# EAGLE library part PCA9535 (library nxp)
I/O EXPANDER 16-bit I2C-bus and SMBus, low power I/O port with interrupt
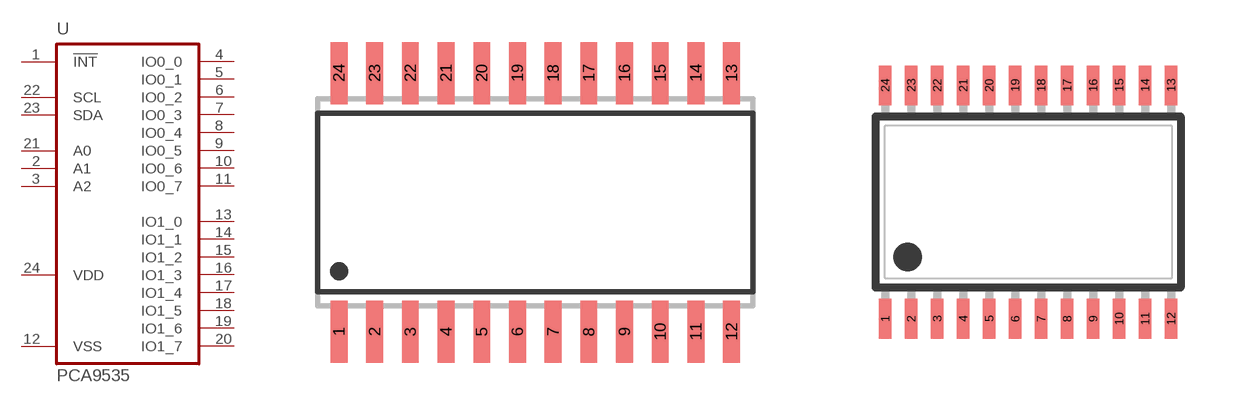
[diagram p9: symbol with the pads of SO24W; footprints SO24W, TSSOP24]

Designator prefix U

## PCA9535D  [SO24W]
1  !INT  out
2  A1  in
3  A2  in
4  IO0_0
5  IO0_1
6  IO0_2
7  IO0_3
8  IO0_4
9  IO0_5
10  IO0_6
11  IO0_7
12  VSS  pwr
13  IO1_0
14  IO1_1
15  IO1_2
16  IO1_3
17  IO1_4
18  IO1_5
19  IO1_6
20  IO1_7
21  A0  in
22  SCL  in
23  SDA
24  VDD  pwr

## PCA9535PW  [TSSOP24]
Pads as for SO24W

## PCA9535BS  [HVQFN24]
1  IO0_0
2  IO0_1
3  IO0_2
4  IO0_3
5  IO0_4
6  IO0_5
7  IO0_6
8  IO0_7
9  VSS  pwr
10  IO1_0
11  IO1_1
12  IO1_2
13  IO1_3
14  IO1_4
15  IO1_5
16  IO1_6
17  IO1_7
18  A0  in
19  SCL  in
20  SDA
21  VDD  pwr
22  !INT  out
23  A1  in
24  A2  in

## Footprint SO24W (pad centres in mm)
SMALL OUTLINE INTEGRATED CIRCUIT wide body 7.5 mm/JEDEC MO-119AA
smd 0.6 x 2.2: 1 -6.985,-4.6; 2 -5.715,-4.6; 3 -4.445,-4.6; 4 -3.175,-4.6; 5 -1.905,-4.6; 6 -0.635,-4.6; 7 0.635,-4.6; 8 1.905,-4.6; 9 3.175,-4.6; 10 4.445,-4.6; 11 5.715,-4.6; 12 6.985,-4.6; 13 6.985,4.6; 14 5.715,4.6; 15 4.445,4.6; 16 3.175,4.6; 17 1.905,4.6; 18 0.635,4.6; 19 -0.635,4.6; 20 -1.905,4.6; 21 -3.175,4.6; 22 -4.445,4.6; 23 -5.715,4.6; 24 -6.985,4.6

## Footprint TSSOP24 (pad centres in mm)
Thin Shrink Small Outline Plastic 24
smd 0.305 x 0.991: 1 -3.575,-2.918; 2 -2.925,-2.918; 3 -2.275,-2.918; 4 -1.625,-2.918; 5 -0.975,-2.918; 6 -0.325,-2.918; 7 0.325,-2.918; 8 0.975,-2.918; 9 1.625,-2.918; 10 2.275,-2.918; 11 2.925,-2.918; 12 3.575,-2.918; 13 3.575,2.918; 14 2.925,2.918; 15 2.275,2.918; 16 1.625,2.918; 17 0.975,2.918; 18 0.325,2.918; 19 -0.325,2.918; 20 -0.975,2.918; 21 -1.625,2.918; 22 -2.275,2.918; 23 -2.925,2.918; 24 -3.575,2.918

## Footprint HVQFN24 (pad centres in mm)
HVQFN24 body 4x4 mm, JDEC MO-220, outline SOT616-1
smd 0.8 x 0.3: 1 -2,1.25; 2 -2,0.75; 3 -2,0.25; 4 -2,-0.25; 5 -2,-0.75; 6 -2,-1.25; 13 2,-1.25; 14 2,-0.75; 15 2,-0.25; 16 2,0.25; 17 2,0.75; 18 2,1.25
smd 0.3 x 0.8: 7 -1.25,-2; 8 -0.75,-2; 9 -0.25,-2; 10 0.25,-2; 11 0.75,-2; 12 1.25,-2; 19 1.25,2; 20 0.75,2; 21 0.25,2; 22 -0.25,2; 23 -0.75,2; 24 -1.25,2